# Altium schematic symbol library New.SchLib: 1 symbol
Pins are listed as number, name and electrical type; pins without a type are passive.

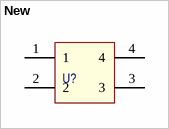
[diagram p0: symbol New]

## New
designator U?, comment Parts_Template  (value not drawn)
New Symbol Template
pins: 1, 2, 3, 4